# Altium schematic symbol library SNES_Enhanement_Cartridge_v1.0.SCHLIB: 50 symbols (part 2 of 2)
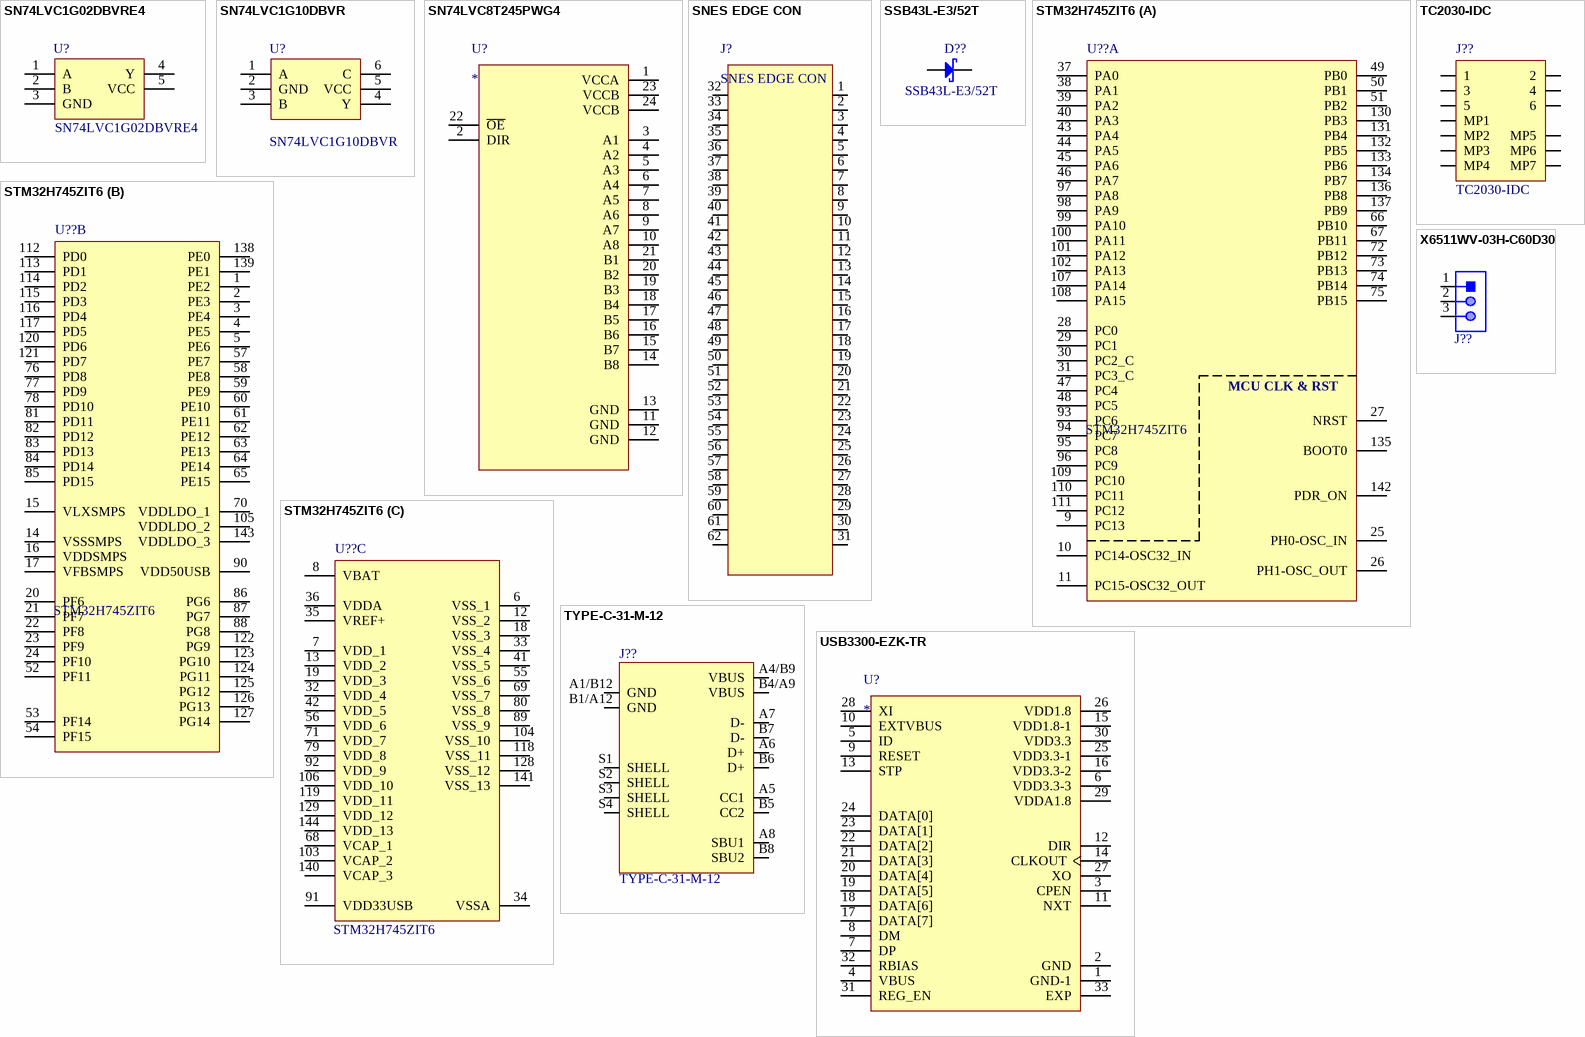
[diagram p2: symbols SN74LVC1G02DBVRE4 to X6511WV-03H-C60D30]

## SN74LVC8T245PWG4
designator U?
8-Bit Dual-Supply Bus Transceiver with Configurable Voltage-Level Shifting and Three-State Outputs 24-TSSOP -40 to 85; MF: Texas Instruments; MP: SN74LVC8T245PWG4; SnapEDA_Link: https://www.snapeda.com/parts/SN74LVC8T245PWG4/Texas+Instruments/view-part/?ref=snap; Package: TSSOP-24 Texas Instruments; Value: *; Check_prices: https://www.snapeda.com/parts/SN74LVC8T245PWG4/Texas+Instruments/view-part/?ref=eda
footprint SOP65P640X120-24N
pins: 1 VCCA, 2 DIR, 3 A1, 4 A2, 5 A3, 6 A4, 7 A5, 8 A6, 9 A7, 10 A8, 11 GND, 12 GND, 13 GND, 14 B8, 15 B7, 16 B6, 17 B5, 18 B4, 19 B3, 20 B2, 21 B1, 22 ~{OE}, 23 VCCB, 24 VCCB

## SNES EDGE CON
designator J?  (no BOM)
footprint SNES_FootPrint
pins: 1, 2, 3, 4, 5, 6, 7, 8, 9, 10, 11, 12, 13, 14, 15, 16, 17, 18, 19, 20, 21, 22, 23, 24, 25, 26, 27, 28, 29, 30, 31, 32, 33, 34, 35, 36, 37, 38, 39, 40, 41, 42, 43, 44, 45, 46, 47, 48, 49, 50, 51, 52, 53, 54, 55, 56, 57, 58, 59, 60, 61, 62

## SSB43L-E3/52T
designator D??
DIODE SCHOTTKY 30V 4A DO214AA; Manufacturer: Vishay Semiconductors; Forward Voltage: 450mV; Max Reverse Current: 600uA; Peak Non-Repetitive Surge Current: 100A; Polarity: 4901Direction; Reverse Voltage: 21V; Supplier: Mouser; Supplier Part Number: 625-SSB43L-E3; Manufacturer Part Number: SSB43L-E3/52T; RoHS: Yes; Category: Rectifier Diodes; Stock: 10903; Pricing: 1=0.55, 10=0.472, 50=0.472, 100=0.332, 1000=0.187, 10000=0.167 (USD); Mounting Technology: Surface Mount; Case/Package: DO-214AA; Pins: 2; Min Operating Temperature: -65°C; Max Operating Temperature: 150°C; Packaging: Tape and Reel; Forward Current: 4A; Package Quantity: 1; Average Rectified Current: 4A; Max Repetitive Reverse Voltage (Vrrm): 30V; Max Forward Surge Current (Ifsm): 100A; Max Reverse Voltage (DC): 30V; Max Surge Current: 100A; Max Reverse Leakage Current: 600uA; Output Current: 4A; Voltage Rating (DC): 30V; Current Rating: 4A; Length: 4.7mm; Width: 3.8mm; Height: 0.095inch; Radiation Hardening: No; RoHS Compliant: Yes; Reach SVHC Compliant: Unknown; Lead Free: 5697LeadFree; ComponentLink1URL: https://datasheet.ciiva.com/14634/0900766b80dd0508-14634162.pdf?src-supplier=Allied+Electronics; ComponentLink1Description: https://datasheet.ciiva.com/14634/0900766b80dd0508-14634162.pdf?src-supplier=Allied+Electronics; ComponentLink2URL: https://datasheet.ciiva.com/4245/ssb43l-4245635.pdf?src-supplier=Arrow+Electronics; ComponentLink2Description: https://datasheet.ciiva.com/4245/ssb43l-4245635.pdf?src-supplier=Arrow+Electronics; ComponentLink3URL: https://datasheet.ciiva.com/15224/getdatasheetpartid-99263-15224680.pdf?src-supplier=Verical; ComponentLink3Description: https://datasheet.ciiva.com/15224/getdatasheetpartid-99263-15224680.pdf?src-supplier=Verical; ComponentLink4URL: https://datasheet.ciiva.com/7962/64541-7962449.pdf?src-supplier=Element14; ComponentLink4Description: https://datasheet.ciiva.com/7962/64541-7962449.pdf?src-supplier=Element14; ComponentLink5URL: https://datasheet.ciiva.com/18434/70217334-18434422.pdf?src-supplier=Allied+Electronics; ComponentLink5Description: https://datasheet.ciiva.com/18434/70217334-18434422.pdf?src-supplier=Allied+Electronics; LCSC Part Number: C222519; Item Type: Diode
footprint SMB_
pins: 1 A, 2 K

## STM32H745ZIT6
designator U??
Dual 32-bit Arm Cortex-M7 up to 480MHz and -M4 MCUs, up to 2MB flash, 1MB RAM, 46 com. and analog interfaces, SMPS; Manufacturer: STMicroelectronics; Item Type: IC; Nominal Supply Current: 4uA; Number of A/D Converters: 2NUMBER; Number of Channels: 28NUMBER; Number of I2C Channels: 4NUMBER; Number of SPI Channels: 6NUMBER; Supplier: Future Electronics; LCSC Part Number: C730193; Manufacturer Part Number: STM32H745ZIT6; RoHS: Yes; Stock: 12840; Pricing: 60=10.13, 120=10.07, 180=10.04, 240=10.02, 300=9.95 (USD); Density: 2MB; Number of D/A Converters: 2NUMBER; Number of PWM Channels: 2NUMBER; Number of Timers/Counters: 2NUMBER; Number of UART Channels: 4NUMBER; Number of USB Channels: 2NUMBER; Height: 1.6mm; ComponentLink1URL: https://datasheet.ciiva.com/68216/2551152-68216837.pdf?src-supplier=Farnell; ComponentLink1Description: https://datasheet.ciiva.com/68216/2551152-68216837.pdf?src-supplier=Farnell
footprint LQFP-144(20x20)
part A pins: 9 PC13, 10 PC14-OSC32_IN, 11 PC15-OSC32_OUT, 25 PH0-OSC_IN, 26 PH1-OSC_OUT, 27 NRST, 28 PC0, 29 PC1, 30 PC2_C, 31 PC3_C, 37 PA0, 38 PA1, 39 PA2, 40 PA3, 43 PA4, 44 PA5, 45 PA6, 46 PA7, 47 PC4, 48 PC5, 49 PB0, 50 PB1, 51 PB2, 66 PB10, 67 PB11, 72 PB12, 73 PB13, 74 PB14, 75 PB15, 93 PC6, 94 PC7, 95 PC8, 96 PC9, 97 PA8, 98 PA9, 99 PA10, 100 PA11, 101 PA12, 102 PA13, 107 PA14, 108 PA15, 109 PC10, 110 PC11, 111 PC12, 130 PB3, 131 PB4, 132 PB5, 133 PB6, 134 PB7, 135 BOOT0, 136 PB8, 137 PB9, 142 PDR_ON
part B pins: 1 PE2, 2 PE3, 3 PE4, 4 PE5, 5 PE6, 14 VSSSMPS, 15 VLXSMPS, 16 VDDSMPS, 17 VFBSMPS, 20 PF6, 21 PF7, 22 PF8, 23 PF9, 24 PF10, 52 PF11, 53 PF14, 54 PF15, 57 PE7, 58 PE8, 59 PE9, 60 PE10, 61 PE11, 62 PE12, 63 PE13, 64 PE14, 65 PE15, 70 VDDLDO_1, 76 PD8, 77 PD9, 78 PD10, 81 PD11, 82 PD12, 83 PD13, 84 PD14, 85 PD15, 86 PG6, 87 PG7, 88 PG8, 90 VDD50USB, 105 VDDLDO_2, 112 PD0, 113 PD1, 114 PD2, 115 PD3, 116 PD4, 117 PD5, 120 PD6, 121 PD7, 122 PG9, 123 PG10, 124 PG11, 125 PG12, 126 PG13, 127 PG14, 138 PE0, 139 PE1, 143 VDDLDO_3
part C pins: 6 VSS_1, 7 VDD_1, 8 VBAT, 12 VSS_2, 13 VDD_2, 18 VSS_3, 19 VDD_3, 32 VDD_4, 33 VSS_4, 34 VSSA, 35 VREF+, 36 VDDA, 41 VSS_5, 42 VDD_5, 55 VSS_6, 56 VDD_6, 68 VCAP_1, 69 VSS_7, 71 VDD_7, 79 VDD_8, 80 VSS_8, 89 VSS_9, 91 VDD33USB, 92 VDD_9, 103 VCAP_2, 104 VSS_10, 106 VDD_10, 118 VSS_11, 119 VDD_11, 128 VSS_12, 129 VDD_12, 140 VCAP_3, 141 VSS_13, 144 VDD_13
part A text: MCU CLK & RST

## TC2030-IDC
designator J??
CABLE ADAPTER 6 POS; Manufacturer: Tag-Connect; ComponentLink1URL: http://www.tag-connect.com/Materials/TC2030-MCP%20Datasheet.pdf?src-supplier=Digi-Key; ComponentLink1Description: http://www.tag-connect.com/Materials/TC2030-MCP%20Datasheet.pdf?src-supplier=Digi-Key; Supplier 1: Digi-Key; Manufacturer Part Number: TC2030-IDC; Stock 1: 284; Pricing 1: 1=43.71 (USD); Package Quantity: 1; Supplier Part Number 1: TC2030-IDC-ND
footprint TC2030-IDC_ (CABLE ADAPTER 6 POS)
pins: 1, 2, 3, 4, 5, 6, MP1, MP2, MP3, MP4, MP5, MP6, MP7

## TYPE-C-31-M-12
designator J??
5A 1 16P Female Type-C SMD USB Connectors ROHS; Manufacturer: Korean Hroparts Elec; ComponentLink1Description: LCSC; ComponentLink1URL: https://www.lcsc.com/product-detail/USB-Connectors_Korean-Hroparts-Elec-TYPE-C-31-M-12_C165948.html; Manufacturer Part Number: TYPE-C-31-M-12; Footprint: Custom; LCSC Part Number: C165948; Item Type: USB Connector
footprint TYPE-C-31-M-12_
pins: A1/B12 GND (power), A4/B9 VBUS (power), A5 CC1, A6 D+, A7 D-, A8 SBU1, B1/A12 GND (power), B4/A9 VBUS (power), B5 CC2, B6 D+, B7 D-, B8 SBU2, S1 SHELL, S2 SHELL, S3 SHELL, S4 SHELL

## USB3300-EZK-TR
designator U?
USB Controller USB 2.0, OTG ULPI Interface 32-QFN (5x5); MF: Microchip Technology; MP: USB3300-EZK-TR; SnapEDA_Link: https://www.snapeda.com/parts/USB3300-EZK-TR/Microchip/view-part/?ref=snap; Package: QFN-32 Microchip Technology; Value: *; Check_prices: https://www.snapeda.com/parts/USB3300-EZK-TR/Microchip/view-part/?ref=eda
footprint QFN50P500X500X100-33N
footprint QFN50P500X500X100-33N-D
pins: 1 GND-1, 2 GND, 3 CPEN, 4 VBUS, 5 ID, 6 VDD3.3-3, 7 DP, 8 DM, 9 RESET, 10 EXTVBUS, 11 NXT, 12 DIR, 13 STP, 14 CLKOUT, 15 VDD1.8-1, 16 VDD3.3-2, 17 DATA[7], 18 DATA[6], 19 DATA[5], 20 DATA[4], 21 DATA[3], 22 DATA[2], 23 DATA[1], 24 DATA[0], 25 VDD3.3-1, 26 VDD1.8, 27 XO, 28 XI, 29 VDDA1.8, 30 VDD3.3, 31 REG_EN, 32 RBIAS, 33 EXP

## X6511WV-03H-C60D30
designator J??  (value not drawn)
Gold 250V 3A Straight Square Pins 2.5mm 3P 260℃ 6mm -40℃~+105℃ 3mm 2.54mm Plugin Black Brass 1x3P Plugin,P=2.54mm Pin Headers ROHS; Manufacturer: XKB; Item Type: Male Header; Manufacturer Part Number: X6511WV-03H-C60D30; Package: Plugin,P=2.54mm; LCSC Part Number: C706875; ComponentLink1Description: LCSC; ComponentLink1URL: https://www.lcsc.com/product-detail/Pin-Headers_XKB-Connectivity-X6511WV-03H-C60D30_C706875.html
footprint HDR1X3_ (Connector; Header; 3 Position)
pins: 1, 2, 3